# Altium integrated library Texas Instruments Interface RS-422.IntLib: 548 symbols (part 14 of 15)
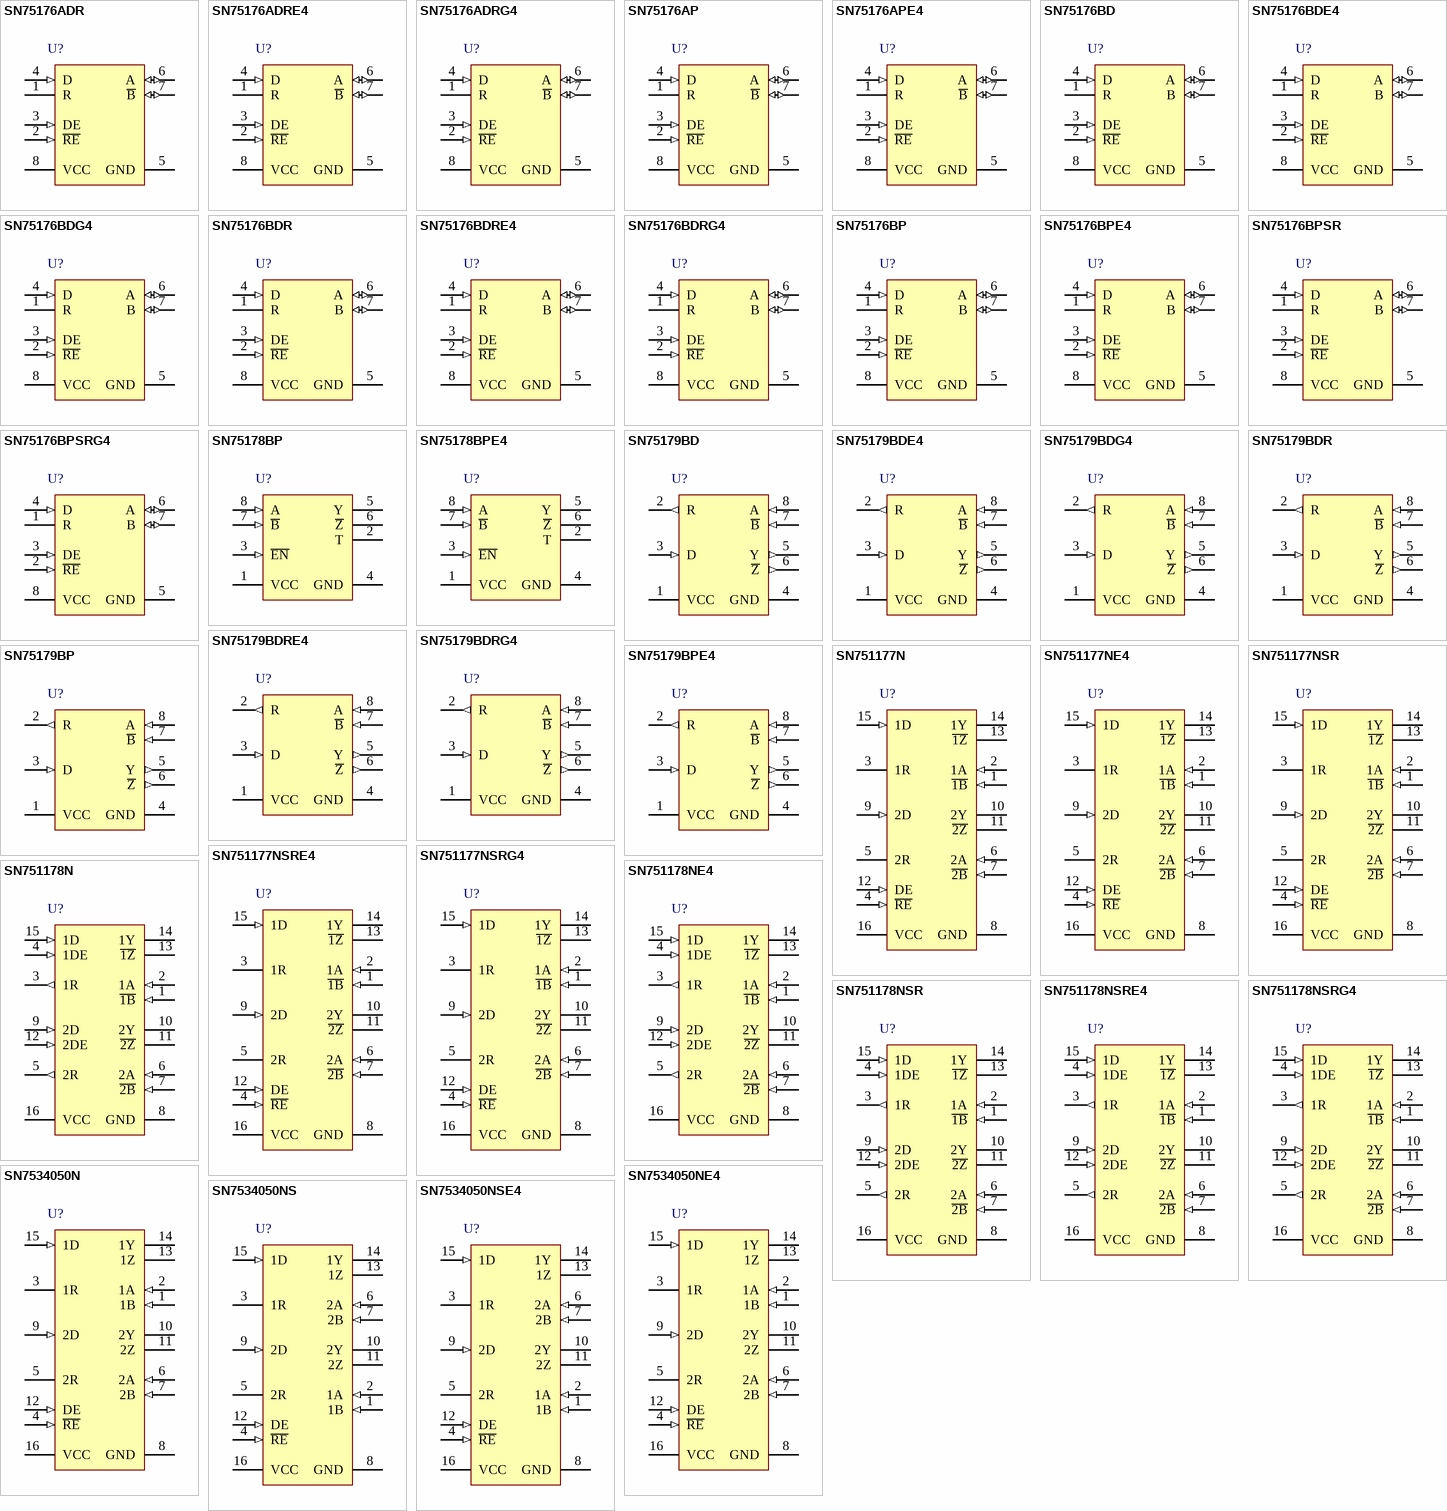
[diagram p28: symbols SN75176ADR to SN7534050NSE4]

## SN75179BPE4
designator U?
Differential Driver and Receiver Pair, 1 TX / 1 RX, 5V, 0 to 70 degC, 8-Pin PDIP (P), Pb-Free (RoHS); PartNumber: SN75179BPE4; Manufacturer: Texas Instruments; Eco-Plan: Green (RoHS & no Sb/Br); SubFamily: RS-422; Drivers Per Package: 1; ICC(Max)(mA): 70; Supply Voltage(s)(V): 5; ESD(kV): 2; Isolated: No; Rating: Catalog; DatasheetVersion: SLLS003E; PackageVersion: revE, Apr-2010; PackageReference: P8; PackageDescription: 8-Pin Plastic Dual-In-Line Package, Row Spacing 7.62 mm, Pitch 2.54 mm; Mounting Technology: Through-hole; Receivers Per Package: 1; # of TX/RX: 1 TX / 1 RX; Footprint: SN75179; Code_JEDEC: MS-001-BA; ComponentLink1Description: Datasheet; ComponentLink1URL: http://www.ti.com/general/docs/lit/getliterature.tsp?genericPartNumber=SN75179B&fileType=pdf; ComponentLink2Description: Package Specification; ComponentLink2URL: http://www.ti.com/lit/ml/mpdi001b/mpdi001b.pdf
footprint P8 (DIP, 8-Leads, Row Spacing 7.62mm, Pitch 2.54mm, Body 9.6x6.4mm)
pins: 1 VCC (power), 2 R (out), 3 D (in), 4 GND (power), 5 Y (out), 6 ~{Z} (out), 7 ~{B} (in), 8 A (in)

## SN751177N
designator U?
Dual Differential Driver / Receiver Pair, 2 TX / 2 RX, 5V, -20 to 85 degC, 16-Pin PDIP (N), Pb-Free (RoHS); PartNumber: SN751177N; Manufacturer: Texas Instruments; SubFamily: RS-422; Drivers Per Package: 2; ICC(Max)(mA): 110; Supply Voltage(s)(V): 5; Isolated: No; Rating: Catalog; DatasheetVersion: SLLS059D; PackageVersion: revE, Dec-2002; PackageReference: N16; PackageDescription: 16-Pin Plastic Dual-In-Line Package, Row Spacing 7.62 mm, Pitch 2.54 mm; Mounting Technology: Through-hole; Eco-Plan: Pb-Free (RoHS); Receivers Per Package: 2; # of TX/RX: 2 TX / 2 RX; ESD(kV): 2; Footprint: MC34050; Code_JEDEC: MS-001*; ComponentLink1Description: Datasheet; ComponentLink1URL: http://www.ti.com/general/docs/lit/getliterature.tsp?genericPartNumber=SN751177&fileType=pdf; ComponentLink2Description: Package Specification; ComponentLink2URL: http://www.ti.com/lit/ml/mpdi002c/mpdi002c.pdf
footprint N16 (DIP, 16-Leads, Row Spacing 7.62mm, Pitch 2.54mm, Body 19.3x6.4mm)
pins: 1 ~{1B} (in), 2 1A (in), 3 1R (hiz), 4 ~{RE} (in), 5 2R (hiz), 6 2A (in), 7 ~{2B} (in), 8 GND (power), 9 2D (in), 10 2Y (hiz), 11 ~{2Z} (hiz), 12 DE (in), 13 ~{1Z} (hiz), 14 1Y (hiz), 15 1D (in), 16 VCC (power)

## SN751177NE4
designator U?
Dual Differential Driver / Receiver Pair, 2 TX / 2 RX, 5V, -20 to 85 degC, 16-Pin PDIP (N), Pb-Free (RoHS); PartNumber: SN751177NE4; Manufacturer: Texas Instruments; SubFamily: RS-422; Drivers Per Package: 2; ICC(Max)(mA): 110; Supply Voltage(s)(V): 5; Isolated: No; Rating: Catalog; DatasheetVersion: SLLS059D; PackageVersion: revE, Dec-2002; PackageReference: N16; PackageDescription: 16-Pin Plastic Dual-In-Line Package, Row Spacing 7.62 mm, Pitch 2.54 mm; Mounting Technology: Through-hole; Eco-Plan: Pb-Free (RoHS); Receivers Per Package: 2; # of TX/RX: 2 TX / 2 RX; ESD(kV): 2; Footprint: MC34050; Code_JEDEC: MS-001*; ComponentLink1Description: Datasheet; ComponentLink1URL: http://www.ti.com/general/docs/lit/getliterature.tsp?genericPartNumber=SN751177&fileType=pdf; ComponentLink2Description: Package Specification; ComponentLink2URL: http://www.ti.com/lit/ml/mpdi002c/mpdi002c.pdf
footprint N16 (DIP, 16-Leads, Row Spacing 7.62mm, Pitch 2.54mm, Body 19.3x6.4mm)
pins: 1 ~{1B} (in), 2 1A (in), 3 1R (hiz), 4 ~{RE} (in), 5 2R (hiz), 6 2A (in), 7 ~{2B} (in), 8 GND (power), 9 2D (in), 10 2Y (hiz), 11 ~{2Z} (hiz), 12 DE (in), 13 ~{1Z} (hiz), 14 1Y (hiz), 15 1D (in), 16 VCC (power)

## SN751177NSR
designator U?
Dual Differential Driver / Receiver Pair, 2 TX / 2 RX, 5V, -20 to 85 degC, 16-Pin SO (NS), Green (RoHS & no Sb/Br); PartNumber: SN751177NSR; Manufacturer: Texas Instruments; Eco-Plan: Pb-Free (RoHS); SubFamily: RS-422; Drivers Per Package: 2; ICC(Max)(mA): 110; Supply Voltage(s)(V): 5; Rating: Catalog; DatasheetVersion: SLLS059D; PackageVersion: revC, Mar-2003; PackageReference: NS16; PackageDescription: 16-Pin Plastic Small Outline Package, 10.2 x 5.3 mm, Pitch 1.27 mm Pitch; Mounting Technology: Surface Mount; Receivers Per Package: 2; # of TX/RX: 2 TX / 2 RX; ESD(kV): 2; Footprint: MC34050; Isolated: No; ComponentLink1Description: Datasheet; ComponentLink1URL: http://www.ti.com/general/docs/lit/getliterature.tsp?genericPartNumber=SN751177&fileType=pdf; ComponentLink2Description: Package Specification; ComponentLink2URL: http://www.ti.com/litv/pdf/msop002a
footprint NS16_N (SOP, 16-Leads, Body 10.2x5.3mm, Pitch 1.27mm, IPC Medium Density)
footprint NS16_L (SOP, 16-Leads, Body 10.2x5.3mm, Pitch 1.27mm, IPC High Density)
footprint NS16_M (SOP, 16-Leads, Body 10.2x5.3mm, Pitch 1.27mm, IPC Low Density)
pins: 1 ~{1B} (in), 2 1A (in), 3 1R (hiz), 4 ~{RE} (in), 5 2R (hiz), 6 2A (in), 7 ~{2B} (in), 8 GND (power), 9 2D (in), 10 2Y (hiz), 11 ~{2Z} (hiz), 12 DE (in), 13 ~{1Z} (hiz), 14 1Y (hiz), 15 1D (in), 16 VCC (power)

## SN751177NSRE4
designator U?
Dual Differential Driver / Receiver Pair, 2 TX / 2 RX, 5V, -20 to 85 degC, 16-Pin SO (NS), Green (RoHS & no Sb/Br); PartNumber: SN751177NSRE4; Manufacturer: Texas Instruments; Eco-Plan: Pb-Free (RoHS); SubFamily: RS-422; Drivers Per Package: 2; ICC(Max)(mA): 110; Supply Voltage(s)(V): 5; Rating: Catalog; DatasheetVersion: SLLS059D; PackageVersion: revC, Mar-2003; PackageReference: NS16; PackageDescription: 16-Pin Plastic Small Outline Package, 10.2 x 5.3 mm, Pitch 1.27 mm Pitch; Mounting Technology: Surface Mount; Receivers Per Package: 2; # of TX/RX: 2 TX / 2 RX; ESD(kV): 2; Footprint: MC34050; Isolated: No; ComponentLink1Description: Datasheet; ComponentLink1URL: http://www.ti.com/general/docs/lit/getliterature.tsp?genericPartNumber=SN751177&fileType=pdf; ComponentLink2Description: Package Specification; ComponentLink2URL: http://www.ti.com/litv/pdf/msop002a
footprint NS16_N (SOP, 16-Leads, Body 10.2x5.3mm, Pitch 1.27mm, IPC Medium Density)
footprint NS16_L (SOP, 16-Leads, Body 10.2x5.3mm, Pitch 1.27mm, IPC High Density)
footprint NS16_M (SOP, 16-Leads, Body 10.2x5.3mm, Pitch 1.27mm, IPC Low Density)
pins: 1 ~{1B} (in), 2 1A (in), 3 1R (hiz), 4 ~{RE} (in), 5 2R (hiz), 6 2A (in), 7 ~{2B} (in), 8 GND (power), 9 2D (in), 10 2Y (hiz), 11 ~{2Z} (hiz), 12 DE (in), 13 ~{1Z} (hiz), 14 1Y (hiz), 15 1D (in), 16 VCC (power)

## SN751177NSRG4
designator U?
Dual Differential Driver / Receiver Pair, 2 TX / 2 RX, 5V, -20 to 85 degC, 16-Pin SO (NS), Green (RoHS & no Sb/Br); PartNumber: SN751177NSRG4; Manufacturer: Texas Instruments; Eco-Plan: Pb-Free (RoHS); SubFamily: RS-422; Drivers Per Package: 2; ICC(Max)(mA): 110; Supply Voltage(s)(V): 5; Rating: Catalog; DatasheetVersion: SLLS059D; PackageVersion: revC, Mar-2003; PackageReference: NS16; PackageDescription: 16-Pin Plastic Small Outline Package, 10.2 x 5.3 mm, Pitch 1.27 mm Pitch; Mounting Technology: Surface Mount; Receivers Per Package: 2; # of TX/RX: 2 TX / 2 RX; ESD(kV): 2; Footprint: MC34050; Isolated: No; ComponentLink1Description: Datasheet; ComponentLink1URL: http://www.ti.com/general/docs/lit/getliterature.tsp?genericPartNumber=SN751177&fileType=pdf; ComponentLink2Description: Package Specification; ComponentLink2URL: http://www.ti.com/litv/pdf/msop002a
footprint NS16_N (SOP, 16-Leads, Body 10.2x5.3mm, Pitch 1.27mm, IPC Medium Density)
footprint NS16_L (SOP, 16-Leads, Body 10.2x5.3mm, Pitch 1.27mm, IPC High Density)
footprint NS16_M (SOP, 16-Leads, Body 10.2x5.3mm, Pitch 1.27mm, IPC Low Density)
pins: 1 ~{1B} (in), 2 1A (in), 3 1R (hiz), 4 ~{RE} (in), 5 2R (hiz), 6 2A (in), 7 ~{2B} (in), 8 GND (power), 9 2D (in), 10 2Y (hiz), 11 ~{2Z} (hiz), 12 DE (in), 13 ~{1Z} (hiz), 14 1Y (hiz), 15 1D (in), 16 VCC (power)

## SN751178N
designator U?
Dual Differential Driver / Receiver Pair, 2 TX / 2 RX, 5V, -20 to 85 degC, 16-Pin PDIP (N), Pb-Free (RoHS); PartNumber: SN751178N; Manufacturer: Texas Instruments; SubFamily: RS-422; Drivers Per Package: 2; ICC(Max)(mA): 110; Supply Voltage(s)(V): 5; Isolated: No; Rating: Catalog; DatasheetVersion: SLLS059D; PackageVersion: revE, Dec-2002; PackageReference: N16; PackageDescription: 16-Pin Plastic Dual-In-Line Package, Row Spacing 7.62 mm, Pitch 2.54 mm; Mounting Technology: Through-hole; Eco-Plan: Pb-Free (RoHS); Receivers Per Package: 2; # of TX/RX: 2 TX / 2 RX; ESD(kV): 2; Footprint: MC34051; Code_JEDEC: MS-001*; ComponentLink1Description: Datasheet; ComponentLink1URL: http://www.ti.com/general/docs/lit/getliterature.tsp?genericPartNumber=SN751178&fileType=pdf; ComponentLink2Description: Package Specification; ComponentLink2URL: http://www.ti.com/lit/ml/mpdi002c/mpdi002c.pdf
footprint N16 (DIP, 16-Leads, Row Spacing 7.62mm, Pitch 2.54mm, Body 19.3x6.4mm)
pins: 1 ~{1B} (in), 2 1A (in), 3 1R (out), 4 1DE (in), 5 2R (out), 6 2A (in), 7 ~{2B} (in), 8 GND (power), 9 2D (in), 10 2Y (hiz), 11 ~{2Z} (hiz), 12 2DE (in), 13 ~{1Z} (hiz), 14 1Y (hiz), 15 1D (in), 16 VCC (power)

## SN751178NE4
designator U?
Dual Differential Driver / Receiver Pair, 2 TX / 2 RX, 5V, -20 to 85 degC, 16-Pin PDIP (N), Pb-Free (RoHS); PartNumber: SN751178NE4; Manufacturer: Texas Instruments; SubFamily: RS-422; Drivers Per Package: 2; ICC(Max)(mA): 110; Supply Voltage(s)(V): 5; Isolated: No; Rating: Catalog; DatasheetVersion: SLLS059D; PackageVersion: revE, Dec-2002; PackageReference: N16; PackageDescription: 16-Pin Plastic Dual-In-Line Package, Row Spacing 7.62 mm, Pitch 2.54 mm; Mounting Technology: Through-hole; Eco-Plan: Pb-Free (RoHS); Receivers Per Package: 2; # of TX/RX: 2 TX / 2 RX; ESD(kV): 2; Footprint: MC34051; Code_JEDEC: MS-001*; ComponentLink1Description: Datasheet; ComponentLink1URL: http://www.ti.com/general/docs/lit/getliterature.tsp?genericPartNumber=SN751178&fileType=pdf; ComponentLink2Description: Package Specification; ComponentLink2URL: http://www.ti.com/lit/ml/mpdi002c/mpdi002c.pdf
footprint N16 (DIP, 16-Leads, Row Spacing 7.62mm, Pitch 2.54mm, Body 19.3x6.4mm)
pins: 1 ~{1B} (in), 2 1A (in), 3 1R (out), 4 1DE (in), 5 2R (out), 6 2A (in), 7 ~{2B} (in), 8 GND (power), 9 2D (in), 10 2Y (hiz), 11 ~{2Z} (hiz), 12 2DE (in), 13 ~{1Z} (hiz), 14 1Y (hiz), 15 1D (in), 16 VCC (power)

## SN751178NSR
designator U?
Dual Differential Driver / Receiver Pair, 2 TX / 2 RX, 5V, -20 to 85 degC, 16-Pin SO (NS), Green (RoHS & no Sb/Br); PartNumber: SN751178NSR; Manufacturer: Texas Instruments; Eco-Plan: Pb-Free (RoHS); SubFamily: RS-422; Drivers Per Package: 2; ICC(Max)(mA): 110; Supply Voltage(s)(V): 5; Rating: Catalog; DatasheetVersion: SLLS059D; PackageVersion: revC, Mar-2003; PackageReference: NS16; PackageDescription: 16-Pin Plastic Small Outline Package, 10.2 x 5.3 mm, Pitch 1.27 mm Pitch; Mounting Technology: Surface Mount; Receivers Per Package: 2; # of TX/RX: 2 TX / 2 RX; ESD(kV): 2; Footprint: MC34051; Isolated: No; ComponentLink1Description: Datasheet; ComponentLink1URL: http://www.ti.com/general/docs/lit/getliterature.tsp?genericPartNumber=SN751178&fileType=pdf; ComponentLink2Description: Package Specification; ComponentLink2URL: http://www.ti.com/litv/pdf/msop002a
footprint NS16_N (SOP, 16-Leads, Body 10.2x5.3mm, Pitch 1.27mm, IPC Medium Density)
footprint NS16_L (SOP, 16-Leads, Body 10.2x5.3mm, Pitch 1.27mm, IPC High Density)
footprint NS16_M (SOP, 16-Leads, Body 10.2x5.3mm, Pitch 1.27mm, IPC Low Density)
pins: 1 ~{1B} (in), 2 1A (in), 3 1R (out), 4 1DE (in), 5 2R (out), 6 2A (in), 7 ~{2B} (in), 8 GND (power), 9 2D (in), 10 2Y (hiz), 11 ~{2Z} (hiz), 12 2DE (in), 13 ~{1Z} (hiz), 14 1Y (hiz), 15 1D (in), 16 VCC (power)

## SN751178NSRE4
designator U?
Dual Differential Driver / Receiver Pair, 2 TX / 2 RX, 5V, -20 to 85 degC, 16-Pin SO (NS), Green (RoHS & no Sb/Br); PartNumber: SN751178NSRE4; Manufacturer: Texas Instruments; Eco-Plan: Pb-Free (RoHS); SubFamily: RS-422; Drivers Per Package: 2; ICC(Max)(mA): 110; Supply Voltage(s)(V): 5; Rating: Catalog; DatasheetVersion: SLLS059D; PackageVersion: revC, Mar-2003; PackageReference: NS16; PackageDescription: 16-Pin Plastic Small Outline Package, 10.2 x 5.3 mm, Pitch 1.27 mm Pitch; Mounting Technology: Surface Mount; Receivers Per Package: 2; # of TX/RX: 2 TX / 2 RX; ESD(kV): 2; Footprint: MC34051; Isolated: No; ComponentLink1Description: Datasheet; ComponentLink1URL: http://www.ti.com/general/docs/lit/getliterature.tsp?genericPartNumber=SN751178&fileType=pdf; ComponentLink2Description: Package Specification; ComponentLink2URL: http://www.ti.com/litv/pdf/msop002a
footprint NS16_N (SOP, 16-Leads, Body 10.2x5.3mm, Pitch 1.27mm, IPC Medium Density)
footprint NS16_L (SOP, 16-Leads, Body 10.2x5.3mm, Pitch 1.27mm, IPC High Density)
footprint NS16_M (SOP, 16-Leads, Body 10.2x5.3mm, Pitch 1.27mm, IPC Low Density)
pins: 1 ~{1B} (in), 2 1A (in), 3 1R (out), 4 1DE (in), 5 2R (out), 6 2A (in), 7 ~{2B} (in), 8 GND (power), 9 2D (in), 10 2Y (hiz), 11 ~{2Z} (hiz), 12 2DE (in), 13 ~{1Z} (hiz), 14 1Y (hiz), 15 1D (in), 16 VCC (power)

## SN751178NSRG4
designator U?
Dual Differential Driver / Receiver Pair, 2 TX / 2 RX, 5V, -20 to 85 degC, 16-Pin SO (NS), Green (RoHS & no Sb/Br); PartNumber: SN751178NSRG4; Manufacturer: Texas Instruments; Eco-Plan: Pb-Free (RoHS); SubFamily: RS-422; Drivers Per Package: 2; ICC(Max)(mA): 110; Supply Voltage(s)(V): 5; Rating: Catalog; DatasheetVersion: SLLS059D; PackageVersion: revC, Mar-2003; PackageReference: NS16; PackageDescription: 16-Pin Plastic Small Outline Package, 10.2 x 5.3 mm, Pitch 1.27 mm Pitch; Mounting Technology: Surface Mount; Receivers Per Package: 2; # of TX/RX: 2 TX / 2 RX; ESD(kV): 2; Footprint: MC34051; Isolated: No; ComponentLink1Description: Datasheet; ComponentLink1URL: http://www.ti.com/general/docs/lit/getliterature.tsp?genericPartNumber=SN751178&fileType=pdf; ComponentLink2Description: Package Specification; ComponentLink2URL: http://www.ti.com/litv/pdf/msop002a
footprint NS16_N (SOP, 16-Leads, Body 10.2x5.3mm, Pitch 1.27mm, IPC Medium Density)
footprint NS16_L (SOP, 16-Leads, Body 10.2x5.3mm, Pitch 1.27mm, IPC High Density)
footprint NS16_M (SOP, 16-Leads, Body 10.2x5.3mm, Pitch 1.27mm, IPC Low Density)
pins: 1 ~{1B} (in), 2 1A (in), 3 1R (out), 4 1DE (in), 5 2R (out), 6 2A (in), 7 ~{2B} (in), 8 GND (power), 9 2D (in), 10 2Y (hiz), 11 ~{2Z} (hiz), 12 2DE (in), 13 ~{1Z} (hiz), 14 1Y (hiz), 15 1D (in), 16 VCC (power)

## SN7534050N
designator U?
Dual Differential Driver and Receiver, 2 TX / 2 RX, 16-Pin PDIP (N), Pb-Free (RoHS); PartNumber: SN7534050N; Manufacturer: Texas Instruments; SubFamily: RS-422; Drivers Per Package: 2; ICC(Max)(mA): 110; Supply Voltage(s)(V): 5; Rating: Catalog; DatasheetVersion: SLLS833; PackageVersion: revE, Dec-2002; PackageReference: N16; PackageDescription: 16-Pin Plastic Dual-In-Line Package, Row Spacing 7.62 mm, Pitch 2.54 mm; Mounting Technology: Through-hole; Receivers Per Package: 2; # of TX/RX: 2 TX / 2 RX; ESD(kV): 2; Footprint: MC34050; Code_JEDEC: MS-001*; ComponentLink1Description: Datasheet; ComponentLink1URL: http://www.ti.com/general/docs/lit/getliterature.tsp?genericPartNumber=SN7534050&fileType=pdf; ComponentLink2Description: Package Specification; ComponentLink2URL: http://www.ti.com/lit/ml/mpdi002c/mpdi002c.pdf
footprint N16 (DIP, 16-Leads, Row Spacing 7.62mm, Pitch 2.54mm, Body 19.3x6.4mm)
pins: 1 1B (in), 2 1A (in), 3 1R (hiz), 4 ~{RE} (in), 5 2R (hiz), 6 2A (in), 7 2B (in), 8 GND (power), 9 2D (in), 10 2Y (hiz), 11 2Z (hiz), 12 DE (in), 13 1Z (hiz), 14 1Y (hiz), 15 1D (in), 16 VCC (power)

## SN7534050NE4
designator U?
Dual Differential Driver and Receiver, 2 TX / 2 RX, 16-Pin PDIP (N), Pb-Free (RoHS); PartNumber: SN7534050NE4; Manufacturer: Texas Instruments; SubFamily: RS-422; Drivers Per Package: 2; ICC(Max)(mA): 110; Supply Voltage(s)(V): 5; Rating: Catalog; DatasheetVersion: SLLS833; PackageVersion: revE, Dec-2002; PackageReference: N16; PackageDescription: 16-Pin Plastic Dual-In-Line Package, Row Spacing 7.62 mm, Pitch 2.54 mm; Mounting Technology: Through-hole; Receivers Per Package: 2; # of TX/RX: 2 TX / 2 RX; ESD(kV): 2; Footprint: MC34050; Code_JEDEC: MS-001*; ComponentLink1Description: Datasheet; ComponentLink1URL: http://www.ti.com/general/docs/lit/getliterature.tsp?genericPartNumber=SN7534050&fileType=pdf; ComponentLink2Description: Package Specification; ComponentLink2URL: http://www.ti.com/lit/ml/mpdi002c/mpdi002c.pdf
footprint N16 (DIP, 16-Leads, Row Spacing 7.62mm, Pitch 2.54mm, Body 19.3x6.4mm)
pins: 1 1B (in), 2 1A (in), 3 1R (hiz), 4 ~{RE} (in), 5 2R (hiz), 6 2A (in), 7 2B (in), 8 GND (power), 9 2D (in), 10 2Y (hiz), 11 2Z (hiz), 12 DE (in), 13 1Z (hiz), 14 1Y (hiz), 15 1D (in), 16 VCC (power)

## SN7534050NS
designator U?
Dual Differential Driver and Receiver, 2 TX / 2 RX, 16-Pin SO (NS), Pb-Free (RoHS); PartNumber: SN7534050NS; Manufacturer: Texas Instruments; SubFamily: RS-422; Drivers Per Package: 2; ICC(Max)(mA): 110; Supply Voltage(s)(V): 5; Rating: Catalog; DatasheetVersion: SLLS833; PackageVersion: revC, Mar-2003; PackageReference: NS16; PackageDescription: 16-Pin Plastic Small Outline Package, 10.2 x 5.3 mm, Pitch 1.27 mm Pitch; Mounting Technology: Surface Mount; Receivers Per Package: 2; # of TX/RX: 2 TX / 2 RX; ESD(kV): 2; Footprint: MC34050; ComponentLink1Description: Datasheet; ComponentLink1URL: http://www.ti.com/general/docs/lit/getliterature.tsp?genericPartNumber=SN7534050&fileType=pdf; ComponentLink2Description: Package Specification; ComponentLink2URL: http://www.ti.com/litv/pdf/msop002a
footprint NS16_N (SOP, 16-Leads, Body 10.2x5.3mm, Pitch 1.27mm, IPC Medium Density)
footprint NS16_L (SOP, 16-Leads, Body 10.2x5.3mm, Pitch 1.27mm, IPC High Density)
footprint NS16_M (SOP, 16-Leads, Body 10.2x5.3mm, Pitch 1.27mm, IPC Low Density)
pins: 1 1B (in), 2 1A (in), 3 1R (hiz), 4 ~{RE} (in), 5 2R (hiz), 6 2A (in), 7 2B (in), 8 GND (power), 9 2D (in), 10 2Y (hiz), 11 2Z (hiz), 12 DE (in), 13 1Z (hiz), 14 1Y (hiz), 15 1D (in), 16 VCC (power)

## SN7534050NSE4
designator U?
Dual Differential Driver and Receiver, 2 TX / 2 RX, 16-Pin SO (NS), Pb-Free (RoHS); PartNumber: SN7534050NSE4; Manufacturer: Texas Instruments; SubFamily: RS-422; Drivers Per Package: 2; ICC(Max)(mA): 110; Supply Voltage(s)(V): 5; Rating: Catalog; DatasheetVersion: SLLS833; PackageVersion: revC, Mar-2003; PackageReference: NS16; PackageDescription: 16-Pin Plastic Small Outline Package, 10.2 x 5.3 mm, Pitch 1.27 mm Pitch; Mounting Technology: Surface Mount; Receivers Per Package: 2; # of TX/RX: 2 TX / 2 RX; ESD(kV): 2; Footprint: MC34050; ComponentLink1Description: Datasheet; ComponentLink1URL: http://www.ti.com/general/docs/lit/getliterature.tsp?genericPartNumber=SN7534050&fileType=pdf; ComponentLink2Description: Package Specification; ComponentLink2URL: http://www.ti.com/litv/pdf/msop002a
footprint NS16_N (SOP, 16-Leads, Body 10.2x5.3mm, Pitch 1.27mm, IPC Medium Density)
footprint NS16_L (SOP, 16-Leads, Body 10.2x5.3mm, Pitch 1.27mm, IPC High Density)
footprint NS16_M (SOP, 16-Leads, Body 10.2x5.3mm, Pitch 1.27mm, IPC Low Density)
pins: 1 1B (in), 2 1A (in), 3 1R (hiz), 4 ~{RE} (in), 5 2R (hiz), 6 2A (in), 7 2B (in), 8 GND (power), 9 2D (in), 10 2Y (hiz), 11 2Z (hiz), 12 DE (in), 13 1Z (hiz), 14 1Y (hiz), 15 1D (in), 16 VCC (power)

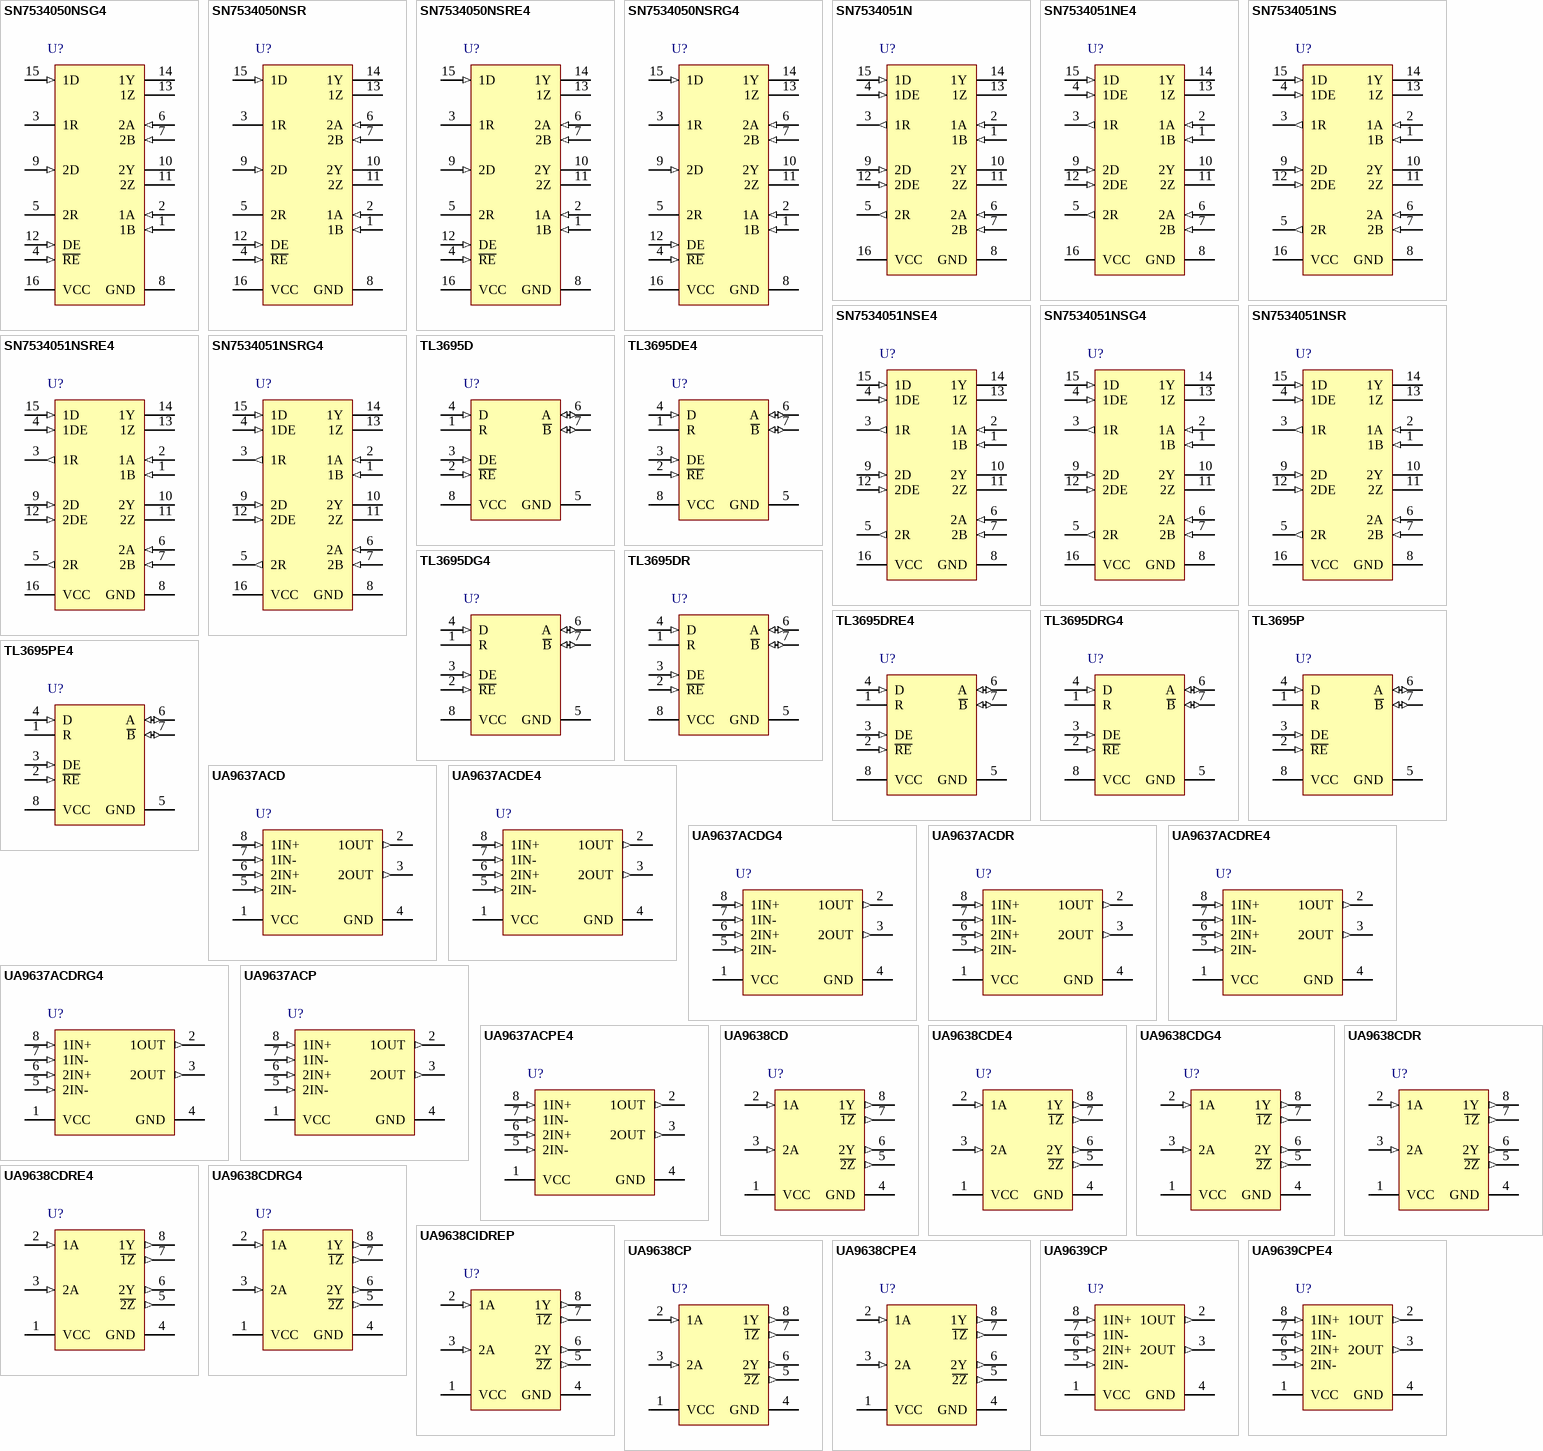
[diagram p14: symbols SN7534050NSG4 to UA9639CPE4]

## SN7534050NSG4
designator U?
Dual Differential Driver and Receiver, 2 TX / 2 RX, 5V, 16-Pin SO (NS), Green (RoHS & no Sb/Br); PartNumber: SN7534050NSG4; Manufacturer: Texas Instruments; SubFamily: RS-422; Drivers Per Package: 2; ICC(Max)(mA): 110; Supply Voltage(s)(V): 5; Rating: Catalog; DatasheetVersion: SLLS833; PackageVersion: revC, Mar-2003; PackageReference: NS16; PackageDescription: 16-Pin Plastic Small Outline Package, 10.2 x 5.3 mm, Pitch 1.27 mm Pitch; Mounting Technology: Surface Mount; Receivers Per Package: 2; # of TX/RX: 2 TX / 2 RX; ESD(kV): 2; Footprint: MC34050; ComponentLink1Description: Datasheet; ComponentLink1URL: http://www.ti.com/general/docs/lit/getliterature.tsp?genericPartNumber=SN7534050&fileType=pdf; ComponentLink2Description: Package Specification; ComponentLink2URL: http://www.ti.com/litv/pdf/msop002a
footprint NS16_N (SOP, 16-Leads, Body 10.2x5.3mm, Pitch 1.27mm, IPC Medium Density)
footprint NS16_L (SOP, 16-Leads, Body 10.2x5.3mm, Pitch 1.27mm, IPC High Density)
footprint NS16_M (SOP, 16-Leads, Body 10.2x5.3mm, Pitch 1.27mm, IPC Low Density)
pins: 1 1B (in), 2 1A (in), 3 1R (hiz), 4 ~{RE} (in), 5 2R (hiz), 6 2A (in), 7 2B (in), 8 GND (power), 9 2D (in), 10 2Y (hiz), 11 2Z (hiz), 12 DE (in), 13 1Z (hiz), 14 1Y (hiz), 15 1D (in), 16 VCC (power)

## SN7534050NSR
designator U?
Dual Differential Driver and Receiver, 2 TX / 2 RX, 5V, 16-Pin SO (NS), Green (RoHS & no Sb/Br); PartNumber: SN7534050NSR; Manufacturer: Texas Instruments; SubFamily: RS-422; Drivers Per Package: 2; ICC(Max)(mA): 110; Supply Voltage(s)(V): 5; Rating: Catalog; DatasheetVersion: SLLS833; PackageVersion: revC, Mar-2003; PackageReference: NS16; PackageDescription: 16-Pin Plastic Small Outline Package, 10.2 x 5.3 mm, Pitch 1.27 mm Pitch; Mounting Technology: Surface Mount; Receivers Per Package: 2; # of TX/RX: 2 TX / 2 RX; ESD(kV): 2; Footprint: MC34050; ComponentLink1Description: Datasheet; ComponentLink1URL: http://www.ti.com/general/docs/lit/getliterature.tsp?genericPartNumber=SN7534050&fileType=pdf; ComponentLink2Description: Package Specification; ComponentLink2URL: http://www.ti.com/litv/pdf/msop002a
footprint NS16_N (SOP, 16-Leads, Body 10.2x5.3mm, Pitch 1.27mm, IPC Medium Density)
footprint NS16_L (SOP, 16-Leads, Body 10.2x5.3mm, Pitch 1.27mm, IPC High Density)
footprint NS16_M (SOP, 16-Leads, Body 10.2x5.3mm, Pitch 1.27mm, IPC Low Density)
pins: 1 1B (in), 2 1A (in), 3 1R (hiz), 4 ~{RE} (in), 5 2R (hiz), 6 2A (in), 7 2B (in), 8 GND (power), 9 2D (in), 10 2Y (hiz), 11 2Z (hiz), 12 DE (in), 13 1Z (hiz), 14 1Y (hiz), 15 1D (in), 16 VCC (power)

## SN7534050NSRE4
designator U?
Dual Differential Driver and Receiver, 2 TX / 2 RX, 5V, 16-Pin SO (NS), Green (RoHS & no Sb/Br); PartNumber: SN7534050NSRE4; Manufacturer: Texas Instruments; SubFamily: RS-422; Drivers Per Package: 2; ICC(Max)(mA): 110; Supply Voltage(s)(V): 5; Rating: Catalog; DatasheetVersion: SLLS833; PackageVersion: revC, Mar-2003; PackageReference: NS16; PackageDescription: 16-Pin Plastic Small Outline Package, 10.2 x 5.3 mm, Pitch 1.27 mm Pitch; Mounting Technology: Surface Mount; Receivers Per Package: 2; # of TX/RX: 2 TX / 2 RX; ESD(kV): 2; Footprint: MC34050; ComponentLink1Description: Datasheet; ComponentLink1URL: http://www.ti.com/general/docs/lit/getliterature.tsp?genericPartNumber=SN7534050&fileType=pdf; ComponentLink2Description: Package Specification; ComponentLink2URL: http://www.ti.com/litv/pdf/msop002a
footprint NS16_N (SOP, 16-Leads, Body 10.2x5.3mm, Pitch 1.27mm, IPC Medium Density)
footprint NS16_L (SOP, 16-Leads, Body 10.2x5.3mm, Pitch 1.27mm, IPC High Density)
footprint NS16_M (SOP, 16-Leads, Body 10.2x5.3mm, Pitch 1.27mm, IPC Low Density)
pins: 1 1B (in), 2 1A (in), 3 1R (hiz), 4 ~{RE} (in), 5 2R (hiz), 6 2A (in), 7 2B (in), 8 GND (power), 9 2D (in), 10 2Y (hiz), 11 2Z (hiz), 12 DE (in), 13 1Z (hiz), 14 1Y (hiz), 15 1D (in), 16 VCC (power)

## SN7534050NSRG4
designator U?
Dual Differential Driver and Receiver, 2 TX / 2 RX, 5V, 16-Pin SO (NS), Green (RoHS & no Sb/Br); PartNumber: SN7534050NSRG4; Manufacturer: Texas Instruments; SubFamily: RS-422; Drivers Per Package: 2; ICC(Max)(mA): 110; Supply Voltage(s)(V): 5; Rating: Catalog; DatasheetVersion: SLLS833; PackageVersion: revC, Mar-2003; PackageReference: NS16; PackageDescription: 16-Pin Plastic Small Outline Package, 10.2 x 5.3 mm, Pitch 1.27 mm Pitch; Mounting Technology: Surface Mount; Receivers Per Package: 2; # of TX/RX: 2 TX / 2 RX; ESD(kV): 2; Footprint: MC34050; ComponentLink1Description: Datasheet; ComponentLink1URL: http://www.ti.com/general/docs/lit/getliterature.tsp?genericPartNumber=SN7534050&fileType=pdf; ComponentLink2Description: Package Specification; ComponentLink2URL: http://www.ti.com/litv/pdf/msop002a
footprint NS16_N (SOP, 16-Leads, Body 10.2x5.3mm, Pitch 1.27mm, IPC Medium Density)
footprint NS16_L (SOP, 16-Leads, Body 10.2x5.3mm, Pitch 1.27mm, IPC High Density)
footprint NS16_M (SOP, 16-Leads, Body 10.2x5.3mm, Pitch 1.27mm, IPC Low Density)
pins: 1 1B (in), 2 1A (in), 3 1R (hiz), 4 ~{RE} (in), 5 2R (hiz), 6 2A (in), 7 2B (in), 8 GND (power), 9 2D (in), 10 2Y (hiz), 11 2Z (hiz), 12 DE (in), 13 1Z (hiz), 14 1Y (hiz), 15 1D (in), 16 VCC (power)

## SN7534051N
designator U?
Dual Differential Driver and Receiver, 2 TX / 2 RX, 5V, 16-Pin PDIP (N), Pb-Free (RoHS); PartNumber: SN7534051N; Manufacturer: Texas Instruments; SubFamily: RS-422; Drivers Per Package: 2; ICC(Max)(mA): 110; Supply Voltage(s)(V): 5; Rating: Catalog; DatasheetVersion: SLLS833; PackageVersion: revE, Dec-2002; PackageReference: N16; PackageDescription: 16-Pin Plastic Dual-In-Line Package, Row Spacing 7.62 mm, Pitch 2.54 mm; Mounting Technology: Through-hole; Receivers Per Package: 2; # of TX/RX: 2 TX / 2 RX; ESD(kV): 2; Footprint: MC34051; Code_JEDEC: MS-001*; ComponentLink1Description: Datasheet; ComponentLink1URL: http://www.ti.com/general/docs/lit/getliterature.tsp?genericPartNumber=SN7534051&fileType=pdf; ComponentLink2Description: Package Specification; ComponentLink2URL: http://www.ti.com/lit/ml/mpdi002c/mpdi002c.pdf
footprint N16 (DIP, 16-Leads, Row Spacing 7.62mm, Pitch 2.54mm, Body 19.3x6.4mm)
pins: 1 1B (in), 2 1A (in), 3 1R (out), 4 1DE (in), 5 2R (out), 6 2A (in), 7 2B (in), 8 GND (power), 9 2D (in), 10 2Y (hiz), 11 2Z (hiz), 12 2DE (in), 13 1Z (hiz), 14 1Y (hiz), 15 1D (in), 16 VCC (power)

## SN7534051NE4
designator U?
Dual Differential Driver and Receiver, 2 TX / 2 RX, 5V, 16-Pin PDIP (N), Pb-Free (RoHS); PartNumber: SN7534051NE4; Manufacturer: Texas Instruments; SubFamily: RS-422; Drivers Per Package: 2; ICC(Max)(mA): 110; Supply Voltage(s)(V): 5; Rating: Catalog; DatasheetVersion: SLLS833; PackageVersion: revE, Dec-2002; PackageReference: N16; PackageDescription: 16-Pin Plastic Dual-In-Line Package, Row Spacing 7.62 mm, Pitch 2.54 mm; Mounting Technology: Through-hole; Eco-Plan: Pb-Free (RoHS); Receivers Per Package: 2; # of TX/RX: 2 TX / 2 RX; ESD(kV): 2; Footprint: MC34051; Code_JEDEC: MS-001*; ComponentLink1Description: Datasheet; ComponentLink1URL: http://www.ti.com/general/docs/lit/getliterature.tsp?genericPartNumber=SN7534051&fileType=pdf; ComponentLink2Description: Package Specification; ComponentLink2URL: http://www.ti.com/lit/ml/mpdi002c/mpdi002c.pdf
footprint N16 (DIP, 16-Leads, Row Spacing 7.62mm, Pitch 2.54mm, Body 19.3x6.4mm)
pins: 1 1B (in), 2 1A (in), 3 1R (out), 4 1DE (in), 5 2R (out), 6 2A (in), 7 2B (in), 8 GND (power), 9 2D (in), 10 2Y (hiz), 11 2Z (hiz), 12 2DE (in), 13 1Z (hiz), 14 1Y (hiz), 15 1D (in), 16 VCC (power)

## SN7534051NS
designator U?
Dual Differential Driver and Receiver, 5V, 2 TX / 2 RX, 16-Pin SO (NS), Green (RoHS & no Sb/Br); PartNumber: SN7534051NS; Manufacturer: Texas Instruments; SubFamily: RS-422; Drivers Per Package: 2; ICC(Max)(mA): 110; Supply Voltage(s)(V): 5; Rating: Catalog; DatasheetVersion: SLLS833; PackageVersion: revC, Mar-2003; PackageReference: NS16; PackageDescription: 16-Pin Plastic Small Outline Package, 10.2 x 5.3 mm, Pitch 1.27 mm Pitch; Mounting Technology: Surface Mount; Eco-Plan: Green (RoHS & no Sb/Br); Receivers Per Package: 2; # of TX/RX: 2 TX / 2 RX; ESD(kV): 2; Footprint: MC34051; ComponentLink1Description: Datasheet; ComponentLink1URL: http://www.ti.com/general/docs/lit/getliterature.tsp?genericPartNumber=SN7534051&fileType=pdf; ComponentLink2Description: Package Specification; ComponentLink2URL: http://www.ti.com/litv/pdf/msop002a
footprint NS16_N (SOP, 16-Leads, Body 10.2x5.3mm, Pitch 1.27mm, IPC Medium Density)
footprint NS16_L (SOP, 16-Leads, Body 10.2x5.3mm, Pitch 1.27mm, IPC High Density)
footprint NS16_M (SOP, 16-Leads, Body 10.2x5.3mm, Pitch 1.27mm, IPC Low Density)
pins: 1 1B (in), 2 1A (in), 3 1R (out), 4 1DE (in), 5 2R (out), 6 2A (in), 7 2B (in), 8 GND (power), 9 2D (in), 10 2Y (hiz), 11 2Z (hiz), 12 2DE (in), 13 1Z (hiz), 14 1Y (hiz), 15 1D (in), 16 VCC (power)

## SN7534051NSE4
designator U?
Dual Differential Driver and Receiver, 2 TX / 2 RX, 5V, 16-Pin SO (NS), Pb-Free (RoHS); PartNumber: SN7534051NSE4; Manufacturer: Texas Instruments; Eco-Plan: Green (RoHS & no Sb/Br); SubFamily: RS-422; Drivers Per Package: 2; ICC(Max)(mA): 110; Supply Voltage(s)(V): 5; Rating: Catalog; DatasheetVersion: SLLS833; PackageVersion: revC, Mar-2003; PackageReference: NS16; PackageDescription: 16-Pin Plastic Small Outline Package, 10.2 x 5.3 mm, Pitch 1.27 mm Pitch; Mounting Technology: Surface Mount; Receivers Per Package: 2; # of TX/RX: 2 TX / 2 RX; ESD(kV): 2; Footprint: MC34051; ComponentLink1Description: Datasheet; ComponentLink1URL: http://www.ti.com/general/docs/lit/getliterature.tsp?genericPartNumber=SN7534051&fileType=pdf; ComponentLink2Description: Package Specification; ComponentLink2URL: http://www.ti.com/litv/pdf/msop002a
footprint NS16_N (SOP, 16-Leads, Body 10.2x5.3mm, Pitch 1.27mm, IPC Medium Density)
footprint NS16_L (SOP, 16-Leads, Body 10.2x5.3mm, Pitch 1.27mm, IPC High Density)
footprint NS16_M (SOP, 16-Leads, Body 10.2x5.3mm, Pitch 1.27mm, IPC Low Density)
pins: 1 1B (in), 2 1A (in), 3 1R (out), 4 1DE (in), 5 2R (out), 6 2A (in), 7 2B (in), 8 GND (power), 9 2D (in), 10 2Y (hiz), 11 2Z (hiz), 12 2DE (in), 13 1Z (hiz), 14 1Y (hiz), 15 1D (in), 16 VCC (power)

## SN7534051NSG4
designator U?
Dual Differential Driver and Receiver, 2 TX / 2 RX, 16-Pin SO (NS), Green (RoHS & Sb/Br); PartNumber: SN7534051NSG4; Manufacturer: Texas Instruments; Eco-Plan: Green (RoHS & no Sb/Br); SubFamily: RS-422; Drivers Per Package: 2; ICC(Max)(mA): 110; Supply Voltage(s)(V): 5; Rating: Catalog; DatasheetVersion: SLLS833; PackageVersion: revC, Mar-2003; PackageReference: NS16; PackageDescription: 16-Pin Plastic Small Outline Package, 10.2 x 5.3 mm, Pitch 1.27 mm Pitch; Mounting Technology: Surface Mount; Receivers Per Package: 2; # of TX/RX: 2 TX / 2 RX; ESD(kV): 2; Footprint: MC34051; ComponentLink1Description: Datasheet; ComponentLink1URL: http://www.ti.com/general/docs/lit/getliterature.tsp?genericPartNumber=SN7534051&fileType=pdf; ComponentLink2Description: Package Specification; ComponentLink2URL: http://www.ti.com/litv/pdf/msop002a
footprint NS16_N (SOP, 16-Leads, Body 10.2x5.3mm, Pitch 1.27mm, IPC Medium Density)
footprint NS16_L (SOP, 16-Leads, Body 10.2x5.3mm, Pitch 1.27mm, IPC High Density)
footprint NS16_M (SOP, 16-Leads, Body 10.2x5.3mm, Pitch 1.27mm, IPC Low Density)
pins: 1 1B (in), 2 1A (in), 3 1R (out), 4 1DE (in), 5 2R (out), 6 2A (in), 7 2B (in), 8 GND (power), 9 2D (in), 10 2Y (hiz), 11 2Z (hiz), 12 2DE (in), 13 1Z (hiz), 14 1Y (hiz), 15 1D (in), 16 VCC (power)

## SN7534051NSR
designator U?
Dual Differential Driver and Receiver, 5V, 2 TX / 2 RX, 16-Pin SO (NS), Pb-Free (RoHS); PartNumber: SN7534051NSR; Manufacturer: Texas Instruments; Eco-Plan: Green (RoHS & no Sb/Br); SubFamily: RS-422; Drivers Per Package: 2; ICC(Max)(mA): 110; Supply Voltage(s)(V): 5; Rating: Catalog; DatasheetVersion: SLLS833; PackageVersion: revC, Mar-2003; PackageReference: NS16; PackageDescription: 16-Pin Plastic Small Outline Package, 10.2 x 5.3 mm, Pitch 1.27 mm Pitch; Mounting Technology: Surface Mount; Receivers Per Package: 2; # of TX/RX: 2 TX / 2 RX; ESD(kV): 2; Footprint: MC34051; ComponentLink1Description: Datasheet; ComponentLink1URL: http://www.ti.com/general/docs/lit/getliterature.tsp?genericPartNumber=SN7534051&fileType=pdf; ComponentLink2Description: Package Specification; ComponentLink2URL: http://www.ti.com/litv/pdf/msop002a
footprint NS16_N (SOP, 16-Leads, Body 10.2x5.3mm, Pitch 1.27mm, IPC Medium Density)
footprint NS16_L (SOP, 16-Leads, Body 10.2x5.3mm, Pitch 1.27mm, IPC High Density)
footprint NS16_M (SOP, 16-Leads, Body 10.2x5.3mm, Pitch 1.27mm, IPC Low Density)
pins: 1 1B (in), 2 1A (in), 3 1R (out), 4 1DE (in), 5 2R (out), 6 2A (in), 7 2B (in), 8 GND (power), 9 2D (in), 10 2Y (hiz), 11 2Z (hiz), 12 2DE (in), 13 1Z (hiz), 14 1Y (hiz), 15 1D (in), 16 VCC (power)

## SN7534051NSRE4
designator U?
Dual Differential Driver and Receiver, 2 TX / 2 RX, 5V, 16-Pin SO (NS), Green (RoHS & no Sb/Br); PartNumber: SN7534051NSRE4; Manufacturer: Texas Instruments; Eco-Plan: Pb-Free (RoHS); SubFamily: RS-422; Drivers Per Package: 2; ICC(Max)(mA): 80; Rating: Catalog; DatasheetVersion: SLLS833; PackageVersion: revC, Mar-2003; PackageReference: NS16; PackageDescription: 16-Pin Plastic Small Outline Package, 10.2 x 5.3 mm, Pitch 1.27 mm Pitch; Mounting Technology: Surface Mount; Receivers Per Package: 2; # of TX/RX: 2 TX / 2 RX; ComponentLink1Description: Datasheet; ComponentLink1URL: http://www.ti.com/general/docs/lit/getliterature.tsp?genericPartNumber=SN7534051&fileType=pdf; ComponentLink2Description: Package Specification; ComponentLink2URL: http://www.ti.com/litv/pdf/msop002a
footprint NS16_N (SOP, 16-Leads, Body 10.2x5.3mm, Pitch 1.27mm, IPC Medium Density)
footprint NS16_L (SOP, 16-Leads, Body 10.2x5.3mm, Pitch 1.27mm, IPC High Density)
footprint NS16_M (SOP, 16-Leads, Body 10.2x5.3mm, Pitch 1.27mm, IPC Low Density)
pins: 1 1B (in), 2 1A (in), 3 1R (out), 4 1DE (in), 5 2R (out), 6 2A (in), 7 2B (in), 8 GND (power), 9 2D (in), 10 2Y (hiz), 11 2Z (hiz), 12 2DE (in), 13 1Z (hiz), 14 1Y (hiz), 15 1D (in), 16 VCC (power)

## SN7534051NSRG4
designator U?
Dual Differential Driver and Receiver, 5V, 2 TX / 2 RX, 16-Pin SO (NS), Green (RoHS & no Sb/Br); PartNumber: SN7534051NSRG4; Manufacturer: Texas Instruments; Eco-Plan: Pb-Free (RoHS); SubFamily: RS-422; Drivers Per Package: 2; ICC(Max)(mA): 80; Rating: Catalog; DatasheetVersion: SLLS833; PackageVersion: revC, Mar-2003; PackageReference: NS16; PackageDescription: 16-Pin Plastic Small Outline Package, 10.2 x 5.3 mm, Pitch 1.27 mm Pitch; Mounting Technology: Surface Mount; Receivers Per Package: 2; # of TX/RX: 2 TX / 2 RX; ComponentLink1Description: Datasheet; ComponentLink1URL: http://www.ti.com/general/docs/lit/getliterature.tsp?genericPartNumber=SN7534051&fileType=pdf; ComponentLink2Description: Package Specification; ComponentLink2URL: http://www.ti.com/litv/pdf/msop002a
footprint NS16_N (SOP, 16-Leads, Body 10.2x5.3mm, Pitch 1.27mm, IPC Medium Density)
footprint NS16_L (SOP, 16-Leads, Body 10.2x5.3mm, Pitch 1.27mm, IPC High Density)
footprint NS16_M (SOP, 16-Leads, Body 10.2x5.3mm, Pitch 1.27mm, IPC Low Density)
pins: 1 1B (in), 2 1A (in), 3 1R (out), 4 1DE (in), 5 2R (out), 6 2A (in), 7 2B (in), 8 GND (power), 9 2D (in), 10 2Y (hiz), 11 2Z (hiz), 12 2DE (in), 13 1Z (hiz), 14 1Y (hiz), 15 1D (in), 16 VCC (power)

## TL3695D
designator U?
Differential Bus Transceiver, 1 TX / 1 RX, 5V, 0 to 70 degC, 8-Pin SOIC (D), Green (RoHS & no Sb/Br); PartNumber: TL3695D; Manufacturer: Texas Instruments; SubFamily: RS-422; Drivers Per Package: 1; ICC(Max)(mA): 50; Supply Voltage(s)(V): 5; ESD(kV): 2; DatasheetVersion: SLLS044D; PackageVersion: revM, Jun-2011; PackageReference: D8; PackageDescription: 8-Pin Plastic Small Outline Integrated Circuit, 4.9 x 3.9 mm, Pitch 1.27 mm Pitch; Mounting Technology: Surface Mount; Receivers Per Package: 1; # of TX/RX: 1 TX / 1 RX; Footprint: SN75176; Isolated: No; Code_JEDEC: MS-012AA; ComponentLink1Description: Datasheet; ComponentLink1URL: http://www.ti.com/general/docs/lit/getliterature.tsp?genericPartNumber=TL3695&fileType=pdf; ComponentLink2Description: Package Specification; ComponentLink2URL: http://www.ti.com/lit/ml/msoi002j/msoi002j.pdf
footprint D8_N (SOIC, 8-Leads, Body 4.9x3.9mm, Pitch 1.27mm, IPC Medium Density)
footprint D8_L (SOIC, 8-Leads, Body 4.9x3.9mm, Pitch 1.27mm, IPC High Density)
footprint D8_M (SOIC, 8-Leads, Body 4.9x3.9mm, Pitch 1.27mm, IPC Low Density)
pins: 1 R (hiz), 2 ~{RE} (in), 3 DE (in), 4 D (in), 5 GND (power), 6 A (io), 7 ~{B} (io), 8 VCC (power)

## TL3695DE4
designator U?
Differential Bus Transceiver, 1 TX / 1 RX, 5V, 0 to 70 degC, 8-Pin SOIC (D), Green (RoHS & no Sb/Br); PartNumber: TL3695DE4; Manufacturer: Texas Instruments; SubFamily: RS-422; Drivers Per Package: 1; ICC(Max)(mA): 50; Supply Voltage(s)(V): 5; ESD(kV): 2; DatasheetVersion: SLLS044D; PackageVersion: revM, Jun-2011; PackageReference: D8; PackageDescription: 8-Pin Plastic Small Outline Integrated Circuit, 4.9 x 3.9 mm, Pitch 1.27 mm Pitch; Mounting Technology: Surface Mount; Receivers Per Package: 1; # of TX/RX: 1 TX / 1 RX; Footprint: SN75176; Isolated: No; Code_JEDEC: MS-012AA; ComponentLink1Description: Datasheet; ComponentLink1URL: http://www.ti.com/general/docs/lit/getliterature.tsp?genericPartNumber=TL3695&fileType=pdf; ComponentLink2Description: Package Specification; ComponentLink2URL: http://www.ti.com/lit/ml/msoi002j/msoi002j.pdf
footprint D8_N (SOIC, 8-Leads, Body 4.9x3.9mm, Pitch 1.27mm, IPC Medium Density)
footprint D8_L (SOIC, 8-Leads, Body 4.9x3.9mm, Pitch 1.27mm, IPC High Density)
footprint D8_M (SOIC, 8-Leads, Body 4.9x3.9mm, Pitch 1.27mm, IPC Low Density)
pins: 1 R (hiz), 2 ~{RE} (in), 3 DE (in), 4 D (in), 5 GND (power), 6 A (io), 7 ~{B} (io), 8 VCC (power)

## TL3695DG4
designator U?
Differential Bus Transceiver, 1 TX / 1 RX, 5V, 0 to 70 degC, 8-Pin SOIC (D), Green (RoHS & no Sb/Br); PartNumber: TL3695DG4; Manufacturer: Texas Instruments; SubFamily: RS-422; Drivers Per Package: 1; ICC(Max)(mA): 50; Supply Voltage(s)(V): 5; ESD(kV): 2; DatasheetVersion: SLLS044D; PackageVersion: revM, Jun-2011; PackageReference: D8; PackageDescription: 8-Pin Plastic Small Outline Integrated Circuit, 4.9 x 3.9 mm, Pitch 1.27 mm Pitch; Mounting Technology: Surface Mount; Eco-Plan: Green (RoHS & no Sb/Br); Receivers Per Package: 1; # of TX/RX: 1 TX / 1 RX; Footprint: SN75176; Isolated: No; Code_JEDEC: MS-012AA; ComponentLink1Description: Datasheet; ComponentLink1URL: http://www.ti.com/general/docs/lit/getliterature.tsp?genericPartNumber=TL3695&fileType=pdf; ComponentLink2Description: Package Specification; ComponentLink2URL: http://www.ti.com/lit/ml/msoi002j/msoi002j.pdf
footprint D8_N (SOIC, 8-Leads, Body 4.9x3.9mm, Pitch 1.27mm, IPC Medium Density)
footprint D8_L (SOIC, 8-Leads, Body 4.9x3.9mm, Pitch 1.27mm, IPC High Density)
footprint D8_M (SOIC, 8-Leads, Body 4.9x3.9mm, Pitch 1.27mm, IPC Low Density)
pins: 1 R (hiz), 2 ~{RE} (in), 3 DE (in), 4 D (in), 5 GND (power), 6 A (io), 7 ~{B} (io), 8 VCC (power)

## TL3695DR
designator U?
Differential Bus Transceiver, 1 TX / 1 RX, 5V, 0 to 70 degC, 8-Pin SOIC (D), Green (RoHS & no Sb/Br); PartNumber: TL3695DR; Manufacturer: Texas Instruments; SubFamily: RS-422; Drivers Per Package: 1; ICC(Max)(mA): 50; Supply Voltage(s)(V): 5; ESD(kV): 2; DatasheetVersion: SLLS044D; PackageVersion: revM, Jun-2011; PackageReference: D8; PackageDescription: 8-Pin Plastic Small Outline Integrated Circuit, 4.9 x 3.9 mm, Pitch 1.27 mm Pitch; Mounting Technology: Surface Mount; Eco-Plan: Green (RoHS & no Sb/Br); Receivers Per Package: 1; # of TX/RX: 1 TX / 1 RX; Footprint: SN75176; Isolated: No; Code_JEDEC: MS-012AA; ComponentLink1Description: Datasheet; ComponentLink1URL: http://www.ti.com/general/docs/lit/getliterature.tsp?genericPartNumber=TL3695&fileType=pdf; ComponentLink2Description: Package Specification; ComponentLink2URL: http://www.ti.com/lit/ml/msoi002j/msoi002j.pdf
footprint D8_N (SOIC, 8-Leads, Body 4.9x3.9mm, Pitch 1.27mm, IPC Medium Density)
footprint D8_L (SOIC, 8-Leads, Body 4.9x3.9mm, Pitch 1.27mm, IPC High Density)
footprint D8_M (SOIC, 8-Leads, Body 4.9x3.9mm, Pitch 1.27mm, IPC Low Density)
pins: 1 R (hiz), 2 ~{RE} (in), 3 DE (in), 4 D (in), 5 GND (power), 6 A (io), 7 ~{B} (io), 8 VCC (power)

## TL3695DRE4
designator U?
Differential Bus Transceiver, 1 TX / 1 RX, 5V, 0 to 70 degC, 8-Pin SOIC (D), Green (RoHS & no Sb/Br); PartNumber: TL3695DRE4; Manufacturer: Texas Instruments; SubFamily: RS-422; Drivers Per Package: 1; ICC(Max)(mA): 50; Supply Voltage(s)(V): 5; ESD(kV): 2; DatasheetVersion: SLLS044D; PackageVersion: revM, Jun-2011; PackageReference: D8; PackageDescription: 8-Pin Plastic Small Outline Integrated Circuit, 4.9 x 3.9 mm, Pitch 1.27 mm Pitch; Mounting Technology: Surface Mount; Eco-Plan: Green (RoHS & no Sb/Br); Receivers Per Package: 1; # of TX/RX: 1 TX / 1 RX; Footprint: SN75176; Isolated: No; Code_JEDEC: MS-012AA; ComponentLink1Description: Datasheet; ComponentLink1URL: http://www.ti.com/general/docs/lit/getliterature.tsp?genericPartNumber=TL3695&fileType=pdf; ComponentLink2Description: Package Specification; ComponentLink2URL: http://www.ti.com/lit/ml/msoi002j/msoi002j.pdf
footprint D8_N (SOIC, 8-Leads, Body 4.9x3.9mm, Pitch 1.27mm, IPC Medium Density)
footprint D8_L (SOIC, 8-Leads, Body 4.9x3.9mm, Pitch 1.27mm, IPC High Density)
footprint D8_M (SOIC, 8-Leads, Body 4.9x3.9mm, Pitch 1.27mm, IPC Low Density)
pins: 1 R (hiz), 2 ~{RE} (in), 3 DE (in), 4 D (in), 5 GND (power), 6 A (io), 7 ~{B} (io), 8 VCC (power)

## TL3695DRG4
designator U?
Differential Bus Transceiver, 1 TX / 1 RX, 5V, 0 to 70 degC, 8-Pin SOIC (D), Green (RoHS & no Sb/Br); PartNumber: TL3695DRG4; Manufacturer: Texas Instruments; SubFamily: RS-422; Drivers Per Package: 1; ICC(Max)(mA): 50; Supply Voltage(s)(V): 5; ESD(kV): 2; DatasheetVersion: SLLS044D; PackageVersion: revM, Jun-2011; PackageReference: D8; PackageDescription: 8-Pin Plastic Small Outline Integrated Circuit, 4.9 x 3.9 mm, Pitch 1.27 mm Pitch; Mounting Technology: Surface Mount; Eco-Plan: Green (RoHS & no Sb/Br); Receivers Per Package: 1; # of TX/RX: 1 TX / 1 RX; Footprint: SN75176; Isolated: No; Code_JEDEC: MS-012AA; ComponentLink1Description: Datasheet; ComponentLink1URL: http://www.ti.com/general/docs/lit/getliterature.tsp?genericPartNumber=TL3695&fileType=pdf; ComponentLink2Description: Package Specification; ComponentLink2URL: http://www.ti.com/lit/ml/msoi002j/msoi002j.pdf
footprint D8_N (SOIC, 8-Leads, Body 4.9x3.9mm, Pitch 1.27mm, IPC Medium Density)
footprint D8_L (SOIC, 8-Leads, Body 4.9x3.9mm, Pitch 1.27mm, IPC High Density)
footprint D8_M (SOIC, 8-Leads, Body 4.9x3.9mm, Pitch 1.27mm, IPC Low Density)
pins: 1 R (hiz), 2 ~{RE} (in), 3 DE (in), 4 D (in), 5 GND (power), 6 A (io), 7 ~{B} (io), 8 VCC (power)

## TL3695P
designator U?
Differential Bus Transceiver, 1 TX / 1 RX, 5V, 0 to 70 degC, 8-Pin PDIP (P), Pb-Free (RoHS); PartNumber: TL3695P; Manufacturer: Texas Instruments; SubFamily: RS-422; Drivers Per Package: 1; ICC(Max)(mA): 50; Supply Voltage(s)(Max)(V): 5.25; Supply Voltage(s)(Min)(V): 4.75; ESD(kV): 2; Isolated: No; DatasheetVersion: SLLS044D; PackageVersion: revE, Apr-2010; PackageReference: P8; PackageDescription: 8-Pin Plastic Dual-In-Line Package, Row Spacing 7.62 mm, Pitch 2.54 mm; Mounting Technology: Through-hole; Eco-Plan: Pb-Free (RoHS); Receivers Per Package: 1; # of TX/RX: 1 TX / 1 RX; Supply Voltage(s)(V): 5v; Footprint: SN75176; Code_JEDEC: MS-001-BA; ComponentLink1Description: Datasheet; ComponentLink1URL: http://www.ti.com/general/docs/lit/getliterature.tsp?genericPartNumber=TL3695&fileType=pdf; ComponentLink2Description: Package Specification; ComponentLink2URL: http://www.ti.com/lit/ml/mpdi001b/mpdi001b.pdf
footprint P8 (DIP, 8-Leads, Row Spacing 7.62mm, Pitch 2.54mm, Body 9.6x6.4mm)
pins: 1 R (hiz), 2 ~{RE} (in), 3 DE (in), 4 D (in), 5 GND (power), 6 A (io), 7 ~{B} (io), 8 VCC (power)

## TL3695PE4
designator U?
Differential Bus Transceiver, 1 TX / 1 RX, 5V, 0 to 70 degC, 8-Pin PDIP (P), Pb-Free (RoHS); PartNumber: TL3695PE4; Manufacturer: Texas Instruments; SubFamily: RS-422; Drivers Per Package: 1; ICC(Max)(mA): 50; Supply Voltage(s)(V): 5; ESD(kV): 2; Isolated: No; DatasheetVersion: SLLS044D; PackageVersion: revE, Apr-2010; PackageReference: P8; PackageDescription: 8-Pin Plastic Dual-In-Line Package, Row Spacing 7.62 mm, Pitch 2.54 mm; Mounting Technology: Through-hole; Eco-Plan: Pb-Free (RoHS); Receivers Per Package: 1; # of TX/RX: 1 TX / 1 RX; Footprint: SN75176; Code_JEDEC: MS-001-BA; ComponentLink1Description: Datasheet; ComponentLink1URL: http://www.ti.com/general/docs/lit/getliterature.tsp?genericPartNumber=TL3695&fileType=pdf; ComponentLink2Description: Package Specification; ComponentLink2URL: http://www.ti.com/lit/ml/mpdi001b/mpdi001b.pdf
footprint P8 (DIP, 8-Leads, Row Spacing 7.62mm, Pitch 2.54mm, Body 9.6x6.4mm)
pins: 1 R (hiz), 2 ~{RE} (in), 3 DE (in), 4 D (in), 5 GND (power), 6 A (io), 7 ~{B} (io), 8 VCC (power)

## UA9637ACD
designator U?
Dual Differential Line Receiver, 5V, 0 to 70 degC, 8-Pin SOIC (D), Green (RoHS & no Sb/Br); PartNumber: UA9637ACD; Manufacturer: Texas Instruments; SubFamily: RS-422; Receivers Per Package: 2; # of TX/RX: 0 TX / 2 RX; ICC(Max)(mA): 50; Supply Voltage(s)(V): 5; Rating: Catalog; DatasheetVersion: SLLS111B; PackageVersion: revM, Jun-2011; PackageReference: D8; PackageDescription: 8-Pin Plastic Small Outline Integrated Circuit, 4.9 x 3.9 mm, Pitch 1.27 mm Pitch; Mounting Technology: Surface Mount; ESD(kV): 2; Footprint: uA9637; Code_JEDEC: MS-012AA; ComponentLink1Description: Datasheet; ComponentLink1URL: http://www.ti.com/general/docs/lit/getliterature.tsp?genericPartNumber=UA9637A&fileType=pdf; ComponentLink2Description: Package Specification; ComponentLink2URL: http://www.ti.com/lit/ml/msoi002j/msoi002j.pdf
footprint D8_N (SOIC, 8-Leads, Body 4.9x3.9mm, Pitch 1.27mm, IPC Medium Density)
footprint D8_L (SOIC, 8-Leads, Body 4.9x3.9mm, Pitch 1.27mm, IPC High Density)
footprint D8_M (SOIC, 8-Leads, Body 4.9x3.9mm, Pitch 1.27mm, IPC Low Density)
pins: 1 VCC (power), 2 1OUT (out), 3 2OUT (out), 4 GND (power), 5 2IN- (in), 6 2IN+ (in), 7 1IN- (in), 8 1IN+ (in)

## UA9637ACDE4
designator U?
Dual Differential Line Receiver, 5V, 0 to 70 degC, 8-Pin SOIC (D), Green (RoHS & no Sb/Br); PartNumber: UA9637ACDE4; Manufacturer: Texas Instruments; SubFamily: RS-422; Receivers Per Package: 2; # of TX/RX: 0 TX / 2 RX; ICC(Max)(mA): 50; Supply Voltage(s)(V): 5; Rating: Catalog; DatasheetVersion: SLLS111B; PackageVersion: revM, Jun-2011; PackageReference: D8; PackageDescription: 8-Pin Plastic Small Outline Integrated Circuit, 4.9 x 3.9 mm, Pitch 1.27 mm Pitch; Mounting Technology: Surface Mount; ESD(kV): 2; Footprint: uA9637; Code_JEDEC: MS-012AA; ComponentLink1Description: Datasheet; ComponentLink1URL: http://www.ti.com/general/docs/lit/getliterature.tsp?genericPartNumber=UA9637A&fileType=pdf; ComponentLink2Description: Package Specification; ComponentLink2URL: http://www.ti.com/lit/ml/msoi002j/msoi002j.pdf
footprint D8_N (SOIC, 8-Leads, Body 4.9x3.9mm, Pitch 1.27mm, IPC Medium Density)
footprint D8_L (SOIC, 8-Leads, Body 4.9x3.9mm, Pitch 1.27mm, IPC High Density)
footprint D8_M (SOIC, 8-Leads, Body 4.9x3.9mm, Pitch 1.27mm, IPC Low Density)
pins: 1 VCC (power), 2 1OUT (out), 3 2OUT (out), 4 GND (power), 5 2IN- (in), 6 2IN+ (in), 7 1IN- (in), 8 1IN+ (in)

## UA9637ACDG4
designator U?
Dual Differential Line Receiver, 5V, 0 to 70 degC, 8-Pin SOIC (D), Green (RoHS & no Sb/Br); PartNumber: UA9637ACDG4; Manufacturer: Texas Instruments; SubFamily: RS-422; Receivers Per Package: 2; # of TX/RX: 0 TX / 2 RX; ICC(Max)(mA): 50; Supply Voltage(s)(V): 5; Rating: Catalog; DatasheetVersion: SLLS111B; PackageVersion: revM, Jun-2011; PackageReference: D8; PackageDescription: 8-Pin Plastic Small Outline Integrated Circuit, 4.9 x 3.9 mm, Pitch 1.27 mm Pitch; Mounting Technology: Surface Mount; ESD(kV): 2; Footprint: uA9637; Code_JEDEC: MS-012AA; ComponentLink1Description: Datasheet; ComponentLink1URL: http://www.ti.com/general/docs/lit/getliterature.tsp?genericPartNumber=UA9637A&fileType=pdf; ComponentLink2Description: Package Specification; ComponentLink2URL: http://www.ti.com/lit/ml/msoi002j/msoi002j.pdf
footprint D8_N (SOIC, 8-Leads, Body 4.9x3.9mm, Pitch 1.27mm, IPC Medium Density)
footprint D8_L (SOIC, 8-Leads, Body 4.9x3.9mm, Pitch 1.27mm, IPC High Density)
footprint D8_M (SOIC, 8-Leads, Body 4.9x3.9mm, Pitch 1.27mm, IPC Low Density)
pins: 1 VCC (power), 2 1OUT (out), 3 2OUT (out), 4 GND (power), 5 2IN- (in), 6 2IN+ (in), 7 1IN- (in), 8 1IN+ (in)

## UA9637ACDR
designator U?
Dual Differential Line Receiver, 5V, 0 to 70 degC, 8-Pin SOIC (D), Green (RoHS & no Sb/Br); PartNumber: UA9637ACDR; Manufacturer: Texas Instruments; SubFamily: RS-422; Receivers Per Package: 2; # of TX/RX: 0 TX / 2 RX; ICC(Max)(mA): 50; Supply Voltage(s)(V): 5; Rating: Catalog; DatasheetVersion: SLLS111B; PackageVersion: revM, Jun-2011; PackageReference: D8; PackageDescription: 8-Pin Plastic Small Outline Integrated Circuit, 4.9 x 3.9 mm, Pitch 1.27 mm Pitch; Mounting Technology: Surface Mount; ESD(kV): 2; Footprint: uA9637; Code_JEDEC: MS-012AA; ComponentLink1Description: Datasheet; ComponentLink1URL: http://www.ti.com/general/docs/lit/getliterature.tsp?genericPartNumber=UA9637A&fileType=pdf; ComponentLink2Description: Package Specification; ComponentLink2URL: http://www.ti.com/lit/ml/msoi002j/msoi002j.pdf
footprint D8_N (SOIC, 8-Leads, Body 4.9x3.9mm, Pitch 1.27mm, IPC Medium Density)
footprint D8_L (SOIC, 8-Leads, Body 4.9x3.9mm, Pitch 1.27mm, IPC High Density)
footprint D8_M (SOIC, 8-Leads, Body 4.9x3.9mm, Pitch 1.27mm, IPC Low Density)
pins: 1 VCC (power), 2 1OUT (out), 3 2OUT (out), 4 GND (power), 5 2IN- (in), 6 2IN+ (in), 7 1IN- (in), 8 1IN+ (in)